# EAGLE library part NRF25L01P (library ICs)
Single Chip 2.4GHz Transceiver 2MB/s
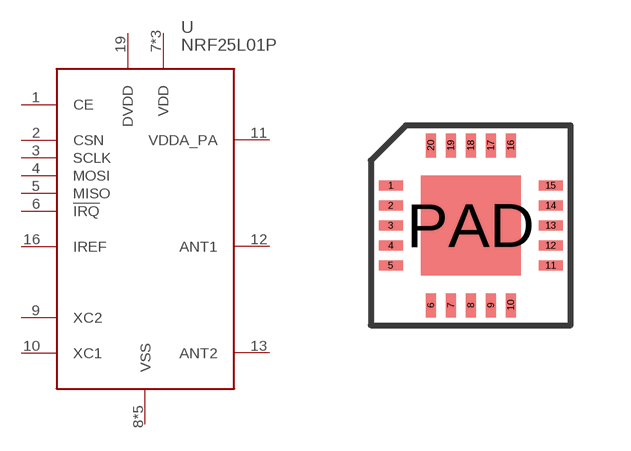
[diagram p206: symbol with the pads of QFN20; footprint QFN20]

Designator prefix U

## NRF25L01P (DIGIKEY: 1490-1019-ND; HEIGHT: 1.2; PRICE_PER: 2.63; VALUE: nRF24L01+)  [QFN20]
1  CE
2  CSN
3  SCLK
4  MOSI
5  MISO
6  !IRQ
7  VDD
8  VSS
9  XC2
10  XC1
11  VDDA_PA
12  ANT1
13  ANT2
14  VSS
15  VDD
16  IREF
17  VSS
18  VDD
19  DVDD
20  VSS
PAD  VSS

## Footprint QFN20 (pad centres in mm)
smd 0.6 x 0.25: 1 -2,1; 2 -2,0.5; 3 -2,0; 4 -2,-0.5; 5 -2,-1; 11 2,-1; 12 2,-0.5; 13 2,0; 14 2,0.5; 15 2,1
smd 0.25 x 0.6: 6 -1,-2; 7 -0.5,-2; 8 0,-2; 9 0.5,-2; 10 1,-2; 16 1,2; 17 0.5,2; 18 0,2; 19 -0.5,2; 20 -1,2
smd 2.5 x 2.5: PAD 0,0